# Altium footprint library 692112030100.PcbLib: 1 footprints
Each footprint in its own frame and in the unit in brackets; x right, y up, seen from the top. Pads: shape width x height; smd on the part's side, far side on the other; paste and mask are expansions set on the pad; w line width, h text height; cw(c..) or ccw(c..) is an arc to the next point about the centre after c.
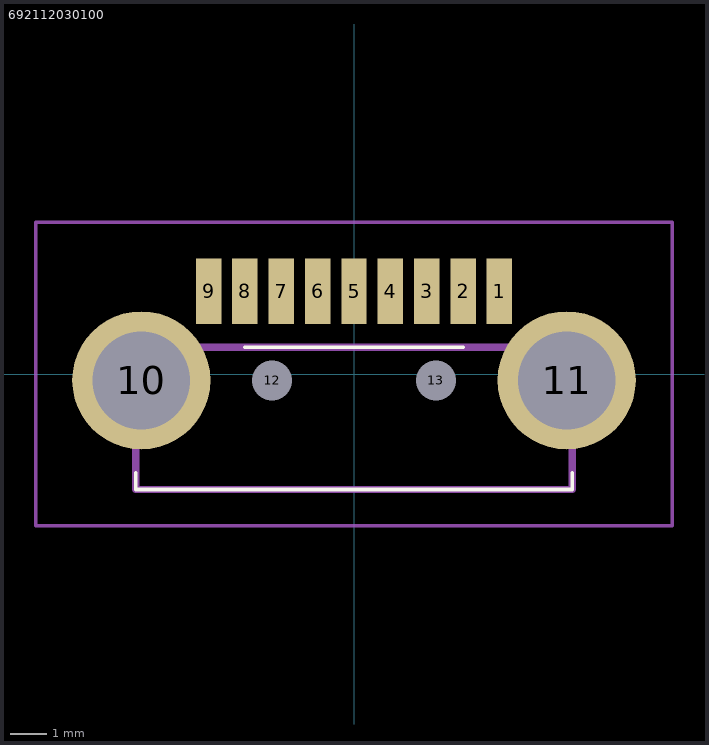
[diagram p0: the footprint, top view; thin cyan lines are the x and y axes]

## 692112030100 [mm]
pads (13):
  rect 0.7x1.8 smd: 1(4,2.275) 2(3,2.275) 3(2,2.275) 4(1,2.275) 5(0,2.275) 6(-1,2.275) 7(-2,2.275) 8(-3,2.275) 9(-4,2.275)
  round 3.8 hole 2.693: 10(-5.85,-0.175) 11(5.85,-0.175)
  round 0.55 hole 1.1 unplated: 12(-2.25,-0.175) 13(2.25,-0.175)
Top Overlay:
  lines w0.1: -6,-2.715 -6,-3.175 6,-3.175 6,-2.715 ; -3,0.735 3,0.735
Mechanical 15:
  lines w0.2: -6,-3.175 6,-3.175 6,0.735 -6,0.735 -6,-3.175
Mechanical 20:
  lines w0.1: -8.75,-4.175 8.75,-4.175 8.75,4.175 -8.75,4.175 -8.75,-4.175
3D body "692112030100.stp": height 5.8, standoff -4.65, extent -10,-3.376 10,3.376